# Altium footprint library PcbLib_DW.PcbLib: 53 footprints (part 4 of 4)
Each footprint in its own frame and in the unit in brackets; x right, y up, seen from the top. Pads: shape width x height; smd on the part's side, far side on the other; paste and mask are expansions set on the pad; w line width, h text height; cw(c..) or ccw(c..) is an arc to the next point about the centre after c.
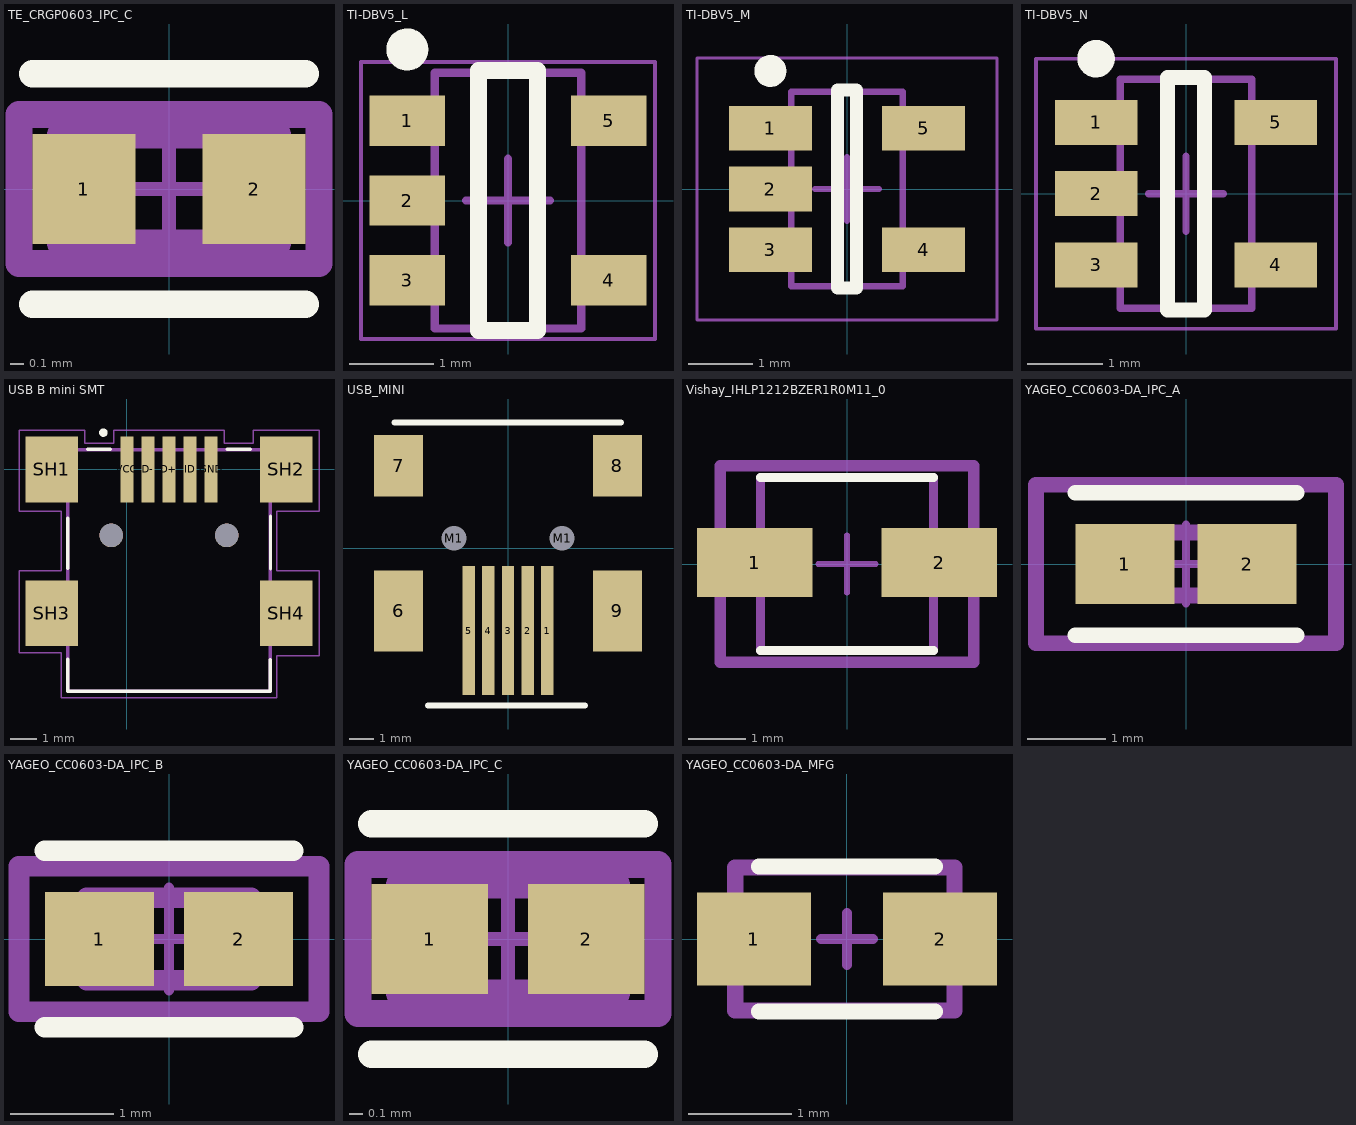
[diagram p3: the footprints below, top view; thin cyan lines are the x and y axes]

## TE_CRGP0603_IPC_C [mm]
pads (2):
  rect 0.758x0.812 smd paste+0 mask+0: 1(-0.627,0) 2(0.627,0)
Top Overlay:
  lines w0.2: -1.006,-0.85 1.006,-0.85 ; -1.006,0.85 1.006,0.85
Mechanical 10:
  lines w0.2: -1.106,-0.55 1.106,-0.55 1.106,0.55 -1.106,0.55 -1.106,-0.55
  text ".Designator" at 0,0 h1
Mechanical 12:
  lines w0.2: -0.8,-0.4 0.8,-0.4 0.8,0.4 -0.8,0.4 -0.8,-0.4
Mechanical 15:
  lines w0.1: -0.5,0 0.5,0 ; 0,-0.5 0,0.5
  lines w0.2: -1.106,-0.55 1.106,-0.55 1.106,0.55 -1.106,0.55 -1.106,-0.55
3D body "Res_TE_CRGP0603F10K_eec.STEP": height 0.25, standoff 0, extent -1.106,-0.55 1.106,0.55

## TI-DBV5_L [mm] "SOT23, 5-Leads, Body 2.9x1.6mm, Pitch 0.95mm, IPC High Density"
height 1.45
pads (5):
  rect 0.9x0.6 smd: 1(-1.2,0.95) 2(-1.2,0) 3(-1.2,-0.95) 4(1.2,-0.95) 5(1.2,0.95)
Top Overlay:
  circle w0.25: c-1.2,1.8 r0.125
  lines w0.2: -0.35,-1.55 -0.35,1.55 0.35,1.55 0.35,-1.55 -0.35,-1.55
Mechanical 13:
  lines w0.1: -0.875,-1.525 0.875,-1.525 0.875,1.525 -0.875,1.525 -0.875,-1.525
Mechanical 15:
  lines w0.05: -1.75,-1.65 1.75,-1.65 1.75,1.65 -1.75,1.65 -1.75,-1.65
  lines w0.1: -0.5,0 0.5,0 ; 0,-0.5 0,0.5
3D body: height 1.45, standoff 0, extent -0.875,-1.525 0.875,1.525

## TI-DBV5_M [mm] "SOT23, 5-Leads, Body 2.9x1.6mm, Pitch 0.95mm, IPC Low Density"
height 1.45
pads (5):
  rect 1.3x0.7 smd: 1(-1.2,0.95) 2(-1.2,0) 3(-1.2,-0.95) 4(1.2,-0.95) 5(1.2,0.95)
Top Overlay:
  circle w0.25: c-1.2,1.85 r0.125
  lines w0.2: -0.15,-1.55 0.15,-1.55 0.15,1.55 -0.15,1.55 -0.15,-1.55
Mechanical 13:
  lines w0.1: -0.875,-1.525 -0.875,1.525 0.875,1.525 0.875,-1.525 -0.875,-1.525
Mechanical 15:
  lines w0.05: -2.35,-2.05 -2.35,2.05 2.35,2.05 2.35,-2.05 -2.35,-2.05
  lines w0.1: -0.5,0 0.5,0 ; 0,-0.5 0,0.5
3D body: height 1.45, standoff 0, extent -0.875,-1.525 0.875,1.525

## TI-DBV5_N [mm] "SOT23, 5-Leads, Body 2.9x1.6mm, Pitch 0.95mm, IPC Medium Density"
height 1.45
pads (5):
  rect 1.1x0.6 smd mask+0: 1(-1.2,0.95) 2(-1.2,0) 3(-1.2,-0.95) 4(1.2,-0.95) 5(1.2,0.95)
Top Overlay:
  circle w0.25: c-1.2,1.8 r0.125
  lines w0.2: -0.25,-1.55 0.25,-1.55 0.25,1.55 -0.25,1.55 -0.25,-1.55
Mechanical 13:
  lines w0.1: -0.875,-1.525 -0.875,1.525 0.875,1.525 0.875,-1.525 -0.875,-1.525
Mechanical 15:
  lines w0.05: -2,-1.8 -2,1.8 2,1.8 2,-1.8 -2,-1.8
  lines w0.1: -0.5,0 0.5,0 ; 0,-0.5 0,0.5
3D body: height 1.45, standoff 0, extent -0.875,-1.525 0.875,1.525

## USB B mini SMT [mm]
pads (11):
  rect 0.5x2.5 smd mask+0: D+(1.6,0) D-(0.8,0) GND(3.2,0) ID(2.4,0) VCC(0,0)
  rect 2x2.5 smd: SH1(-2.86,0) SH2(6.06,0) SH3(-2.86,-5.48) SH4(6.06,-5.48)
  round 0.9 hole 0.9 unplated: ""(-0.6,-2.51) ""(3.8,-2.51)
Top Overlay:
  circle w0.16: c-0.9,1.4 r0.08
  lines w0.127: -2.26,-7.214 -2.26,-8.45 5.46,-8.45 5.46,-7.239 ; -2.261,-3.759 -2.261,-1.854 ; -1.499,0.762 -0.635,0.762 ; 3.81,0.762 4.699,0.762 ; 5.461,-3.785 5.461,-1.778
Mechanical 13:
  circle w0.16: c0,0.15 r0.08
  lines w0.127: -2.26,-8.45 5.46,-8.45 5.46,-7.85 5.46,0.75 -2.26,0.75 -2.26,-8.45
Mechanical 15:
  lines w0.05: -4.11,-6.98 -4.11,-3.85 -2.51,-3.85 -2.51,-1.6 -4.11,-1.6 -4.11,1.5 -1.61,1.5 -1.61,1 -0.5,1 -0.5,1.5 3.7,1.5 3.7,1 4.81,1 4.81,1.5 7.31,1.5 7.31,-1.6 5.71,-1.6 5.71,-3.85 7.31,-3.85 7.31,-7.1 5.71,-7.1 5.71,-8.7 -2.51,-8.7 -2.51,-6.98 -4.11,-6.98

## USB_MINI [mm]
pads (11):
  rect 0.5x5.25 smd: 1(1.6,-3.355) 2(0.8,-3.355) 3(0,-3.355) 4(-0.8,-3.355) 5(-1.6,-3.355)
  rect 2x3.3 smd: 6(-4.45,-2.556) 9(4.45,-2.556)
  rect 2x2.5 smd: 7(-4.45,3.355) 8(4.45,3.355)
  round 0.8 hole 1 unplated: M1(-2.197,0.396) M1(2.197,0.396)
Top Overlay:
  lines w0.254: -4.61,5.107 4.597,5.107 ; -3.25,-6.4 3.125,-6.4

## Vishay_IHLP1212BZER1R0M11_0 [mm]
pads (2):
  rect 2x1.2 smd paste+0 mask+0.08: 1(-1.6,0.025) 2(1.6,0.025)
Top Overlay:
  lines w0.153: -1.5,-1.5 1.5,-1.5 ; -1.5,1.5 1.5,1.5
Mechanical 10:
  lines w0.2: -2.2,-1.7 2.2,-1.7 2.2,1.7 -2.2,1.7 -2.2,-1.7
Mechanical 12:
  lines w0.15: -1.5,-1.5 1.5,-1.5 1.5,1.5 -1.5,1.5 -1.5,-1.5
Mechanical 15:
  lines w0.1: -0.5,0 0.5,0 ; 0,-0.5 0,0.5
  lines w0.2: -2.2,-1.7 2.2,-1.7 2.2,1.7 -2.2,1.7 -2.2,-1.7
3D body: height 2, standoff 0, extent -1.499,-1.499 1.499,1.499

## YAGEO_CC0603-DA_IPC_A [mm]
pads (2):
  rect 1.258x1.012 smd paste+0 mask+0: 1(-0.777,0) 2(0.777,0)
Top Overlay:
  lines w0.2: -1.406,-0.906 1.406,-0.906 ; -1.406,0.906 1.406,0.906
Mechanical 10:
  lines w0.2: -1.906,-1.006 1.906,-1.006 1.906,1.006 -1.906,1.006 -1.906,-1.006
  text ".Designator" at 0,0 h1
Mechanical 12:
  lines w0.2: -0.8,-0.4 0.8,-0.4 0.8,0.4 -0.8,0.4 -0.8,-0.4
Mechanical 15:
  lines w0.1: -0.5,0 0.5,0 ; 0,-0.5 0,0.5
  lines w0.2: -1.906,-1.006 1.906,-1.006 1.906,1.006 -1.906,1.006 -1.906,-1.006
3D body "Cap_YAGEO_CC0603KRX7R9BB153_eec.STEP": height 0.25, standoff 0, extent -1.906,-1.006 1.906,1.006

## YAGEO_CC0603-DA_IPC_B [mm]
pads (2):
  rect 1.058x0.912 smd paste+0 mask+0: 1(-0.677,0) 2(0.677,0)
Top Overlay:
  lines w0.2: -1.206,-0.856 1.206,-0.856 ; -1.206,0.856 1.206,0.856
Mechanical 10:
  lines w0.2: -1.456,-0.706 1.456,-0.706 1.456,0.706 -1.456,0.706 -1.456,-0.706
  text ".Designator" at 0,0 h1
Mechanical 12:
  lines w0.2: -0.8,-0.4 0.8,-0.4 0.8,0.4 -0.8,0.4 -0.8,-0.4
Mechanical 15:
  lines w0.1: -0.5,0 0.5,0 ; 0,-0.5 0,0.5
  lines w0.2: -1.456,-0.706 1.456,-0.706 1.456,0.706 -1.456,0.706 -1.456,-0.706
3D body "Cap_YAGEO_CC0603KRX7R9BB153_eec.STEP": height 0.25, standoff 0, extent -1.456,-0.706 1.456,0.706

## YAGEO_CC0603-DA_IPC_C [mm]
pads (2):
  rect 0.858x0.812 smd paste+0 mask+0: 1(-0.577,0) 2(0.577,0)
Top Overlay:
  lines w0.2: -1.006,-0.85 1.006,-0.85 ; -1.006,0.85 1.006,0.85
Mechanical 10:
  lines w0.2: -1.106,-0.55 1.106,-0.55 1.106,0.55 -1.106,0.55 -1.106,-0.55
  text ".Designator" at 0,0 h1
Mechanical 12:
  lines w0.2: -0.8,-0.4 0.8,-0.4 0.8,0.4 -0.8,0.4 -0.8,-0.4
Mechanical 15:
  lines w0.1: -0.5,0 0.5,0 ; 0,-0.5 0,0.5
  lines w0.2: -1.106,-0.55 1.106,-0.55 1.106,0.55 -1.106,0.55 -1.106,-0.55
3D body "Cap_YAGEO_CC0603KRX7R9BB153_eec.STEP": height 0.25, standoff 0, extent -1.106,-0.55 1.106,0.55

## YAGEO_CC0603-DA_MFG [mm]
pads (2):
  rect 1.1x0.9 smd paste+0 mask+0: 1(-0.9,0) 2(0.9,0)
Top Overlay:
  lines w0.153: -0.85,-0.7 0.85,-0.7 ; -0.85,0.7 0.85,0.7
Mechanical 10:
  lines w0.153: -1.084,-0.691 -1.084,0.692 1.042,0.692 1.042,-0.691 -1.084,-0.691
Mechanical 15:
  lines w0.1: -0.25,0 0.251,0 ; 0,-0.25 0,0.251
  lines w0.153: -1.078,-0.691 -1.078,0.692 1.039,0.692 1.039,-0.691 -1.078,-0.691
3D body "Cap_YAGEO_CC0603KRX7R9BB153_eec.STEP": height 0.25, standoff 0, extent -1.35,-0.75 1.35,0.75